# Altium footprint library XT30UPB-F.PcbLib: 1 footprints
Each footprint in its own frame and in the unit in brackets; x right, y up, seen from the top. Pads: shape width x height; smd on the part's side, far side on the other; paste and mask are expansions set on the pad; w line width, h text height; cw(c..) or ccw(c..) is an arc to the next point about the centre after c.
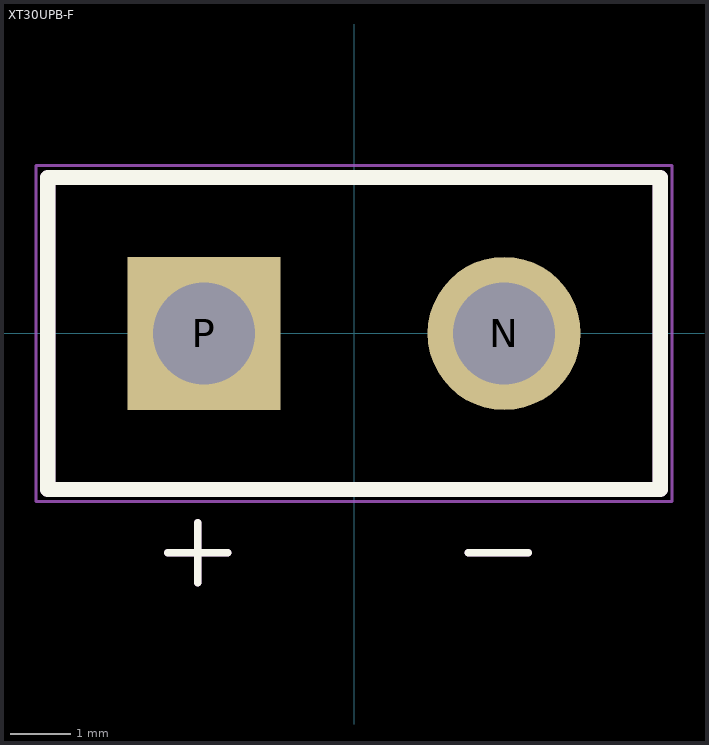
[diagram p0: the footprint, top view; thin cyan lines are the x and y axes]

## XT30UPB-F [mm]
pads (2):
  round 2.55 hole 1.7: N(2.5,0)
  rect 2.55x2.55 / inner round 2.55 / far side rect 2.55x2.55 hole 1.7: P(-2.5,0)
Top Overlay:
  lines w0.127: -3.1,-3.65 -2.1,-3.65 ; -2.6,-4.15 -2.6,-3.15 ; 1.9,-3.65 2.9,-3.65
  lines w0.254: -5.1,-2.6 -5.1,2.6 5.1,2.6 5.1,-2.6 -5.1,-2.6
Mechanical 13:
  lines w0.127: -3.1,-3.65 -2.1,-3.65 ; -2.6,-4.15 -2.6,-3.15 ; 1.9,-3.65 2.9,-3.65
  lines w0.254: -5.1,-2.6 -5.1,2.6 5.1,2.6 5.1,-2.6 -5.1,-2.6
Mechanical 15:
  lines w0.05: -5.3,-2.8 -5.3,2.8 5.3,2.8 5.3,-2.8 -5.3,-2.8
3D body "User Library-XT30UPB-F-1.step": height 9.4, standoff -2, extent -5.1,-2.6 5.1,2.6